# Altium footprint library SRP5030CAR56M.PcbLib: 1 footprints
Each footprint in its own frame and in the unit in brackets; x right, y up, seen from the top. Pads: shape width x height; smd on the part's side, far side on the other; paste and mask are expansions set on the pad; w line width, h text height; cw(c..) or ccw(c..) is an arc to the next point about the centre after c.
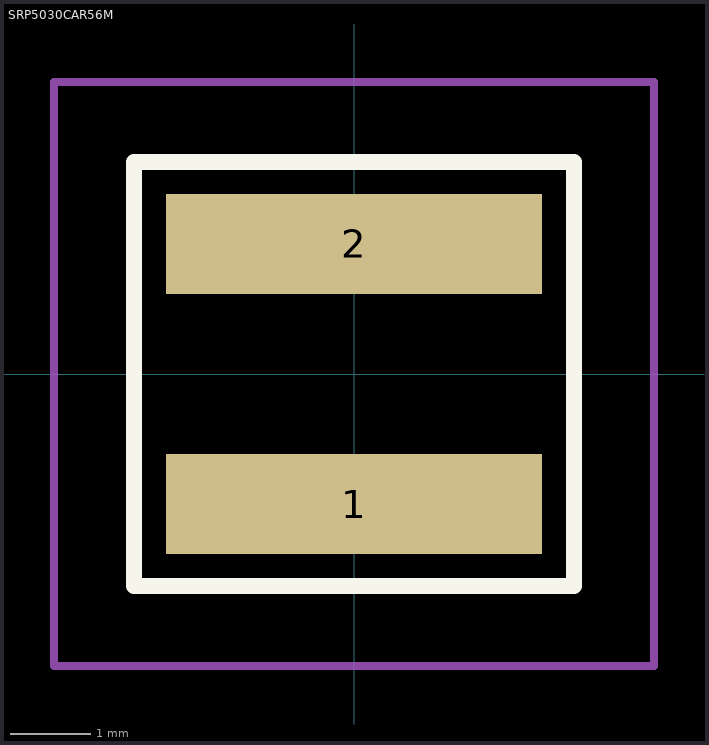
[diagram p0: the footprint, top view; thin cyan lines are the x and y axes]

## SRP5030CAR56M [mm]
pads (2):
  rect 4.7x1.25 smd: 1(0,-1.625) 2(0,1.625)
Top Overlay:
  lines w0.2: -2.75,-2.65 2.75,-2.65 2.75,2.65 -2.75,2.65 -2.75,-2.65
Mechanical 15:
  lines w0.1: -2.75,-2.65 2.75,-2.65 2.75,2.65 -2.75,2.65 -2.75,-2.65
Mechanical 20:
  lines w0.1: -3.75,-3.65 3.75,-3.65 3.75,3.65 -3.75,3.65 -3.75,-3.65